# Altium footprint library 海关全向控制器主控板电路V2.PcbLib: 35 footprints (part 3 of 3)
Each footprint in its own frame and in the unit in brackets; x right, y up, seen from the top. Pads: shape width x height; smd on the part's side, far side on the other; paste and mask are expansions set on the pad; w line width, h text height; cw(c..) or ccw(c..) is an arc to the next point about the centre after c.
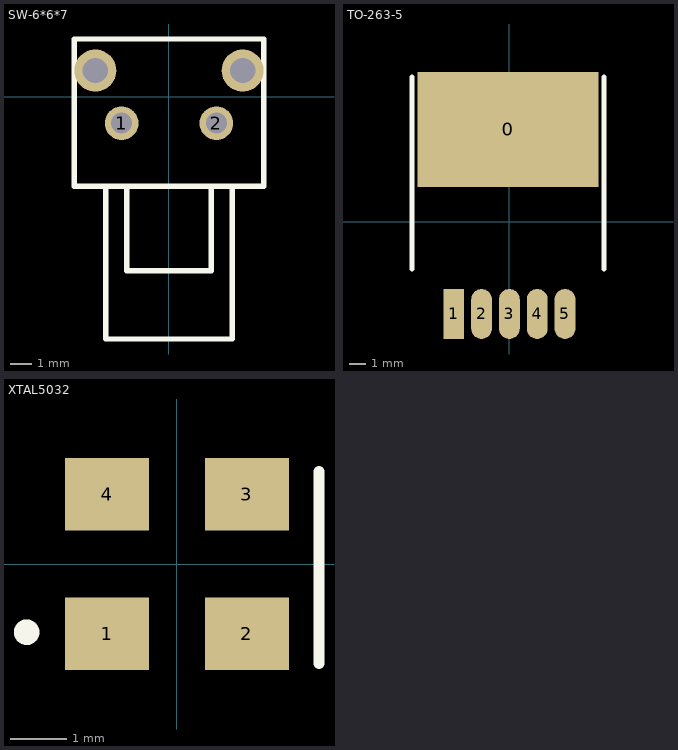
[diagram p2: the footprints below, top view; thin cyan lines are the x and y axes]

## SW-6*6*7 [mm]
height 7
pads (4):
  round 1.6 hole 1: 1(-2.25,-1.25) 2(2.25,-1.25)
  round 2 hole 1.2: ""(-3.5,1.25) ""(3.5,1.25)
Top Overlay:
  lines w0.254: -3,-4.25 -3,-11.5 3,-11.5 3,-4.25 ; -2,-4.25 -2,-8.25 2,-8.25 2,-4.25 ; -4.5,-4.25 -4.5,2.75 4.5,2.75 4.5,-4.25 -4.5,-4.25
3D body: height 7, standoff -3.3, extent -3.63,-11.5 3.6,2.8

## TO-263-5 [mil]
pads (6):
  rect 433.07x275.59 smd: 0(-3.33,221.44)
  rect 50x120 smd: 1(-133.33,-221.44)
  oval 50x120 smd: 2(-66.67,-221.44) 3(0,-221.44) 4(66.67,-221.44) 5(133.33,-221.44)
Top Overlay:
  lines w12: -233.33,-113.56 -233.33,346.44 ; 226.67,-113.56 226.67,346.44
3D body: height 177.17, standoff 0, extent -204.26,-257.93 206.67,320.81

## XTAL5032 [mm]
height 1
pads (4):
  rect 1.5x1.3 smd: 1(-1.25,-1.25) 2(1.25,-1.25) 3(1.25,1.25) 4(-1.25,1.25)
Top Overlay:
  circle w0.203: c-2.688,-1.22 r0.127
  region: -2.688,-1.083 -2.591,-1.123 -2.551,-1.22 -2.591,-1.317 -2.688,-1.357 -2.785,-1.317 -2.825,-1.22 -2.785,-1.123
  lines w0.203: 2.54,-1.778 2.54,1.651
3D body: height 1.2, standoff 0, extent -2.5,-1.6 2.5,1.6